# Altium schematic symbol library J1011F01PNL.Schlib: 1 symbol
Pins are listed as number, name and electrical type; pins without a type are passive.

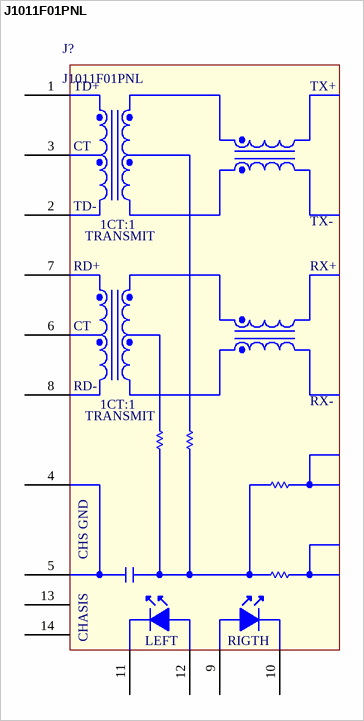
[diagram p0: symbol J1011F01PNL]

## J1011F01PNL
designator J?
CONN PULSEJACK 1PORT 10/100B-TX
pins: 1 TP+, 2 TP-, 3 CT, 4 CHS GND, 5 CHS GND, 6 CT, 7 RD+, 8 RD-, 9 CR, 10 AR, 11 CL, 12 AL, 13 AL, 14 AL
text: TD+; TX+; TD-; 1CT:1; TX-; TRANSMIT; RX+; RX-; CHASIS; LEFT; RIGTH